# EAGLE library part 52043-1419 (library Neel)
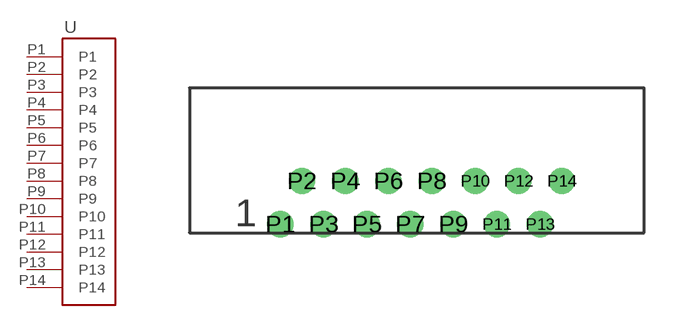
[diagram p2: symbol with the pads of 52043-1419; footprint 52043-1419]

Designator prefix -

## 52043-1419  [52043-1419]
P1  P1
P2  P2
P3  P3
P4  P4
P5  P5
P6  P6
P7  P7
P8  P8
P9  P9
P10  P10
P11  P11
P12  P12
P13  P13
P14  P14

## Footprint 52043-1419 (pad centres in mm)
drill 0.7: P1 -6.3,-2.9; P2 -5.3,-0.9; P3 -4.3,-2.9; P4 -3.3,-0.9; P5 -2.3,-2.9; P6 -1.3,-0.9; P7 -0.3,-2.9; P8 0.7,-0.9; P9 1.7,-2.9; P10 2.7,-0.9; P11 3.7,-2.9; P12 4.7,-0.9; P13 5.7,-2.9; P14 6.7,-0.9